# Altium footprint library CAP-100u-POL.PcbLib: 1 footprints
Each footprint in its own frame and in the unit in brackets; x right, y up, seen from the top. Pads: shape width x height; smd on the part's side, far side on the other; paste and mask are expansions set on the pad; w line width, h text height; cw(c..) or ccw(c..) is an arc to the next point about the centre after c.
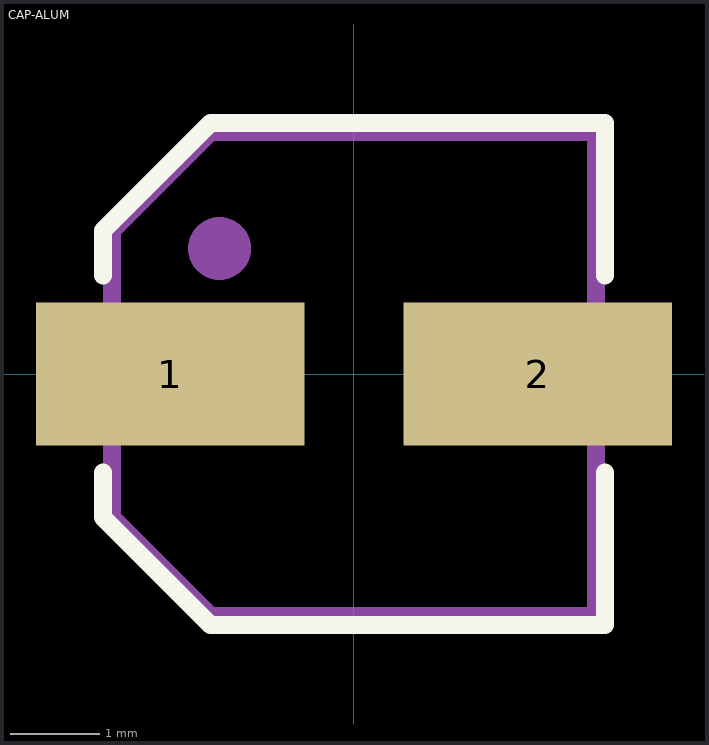
[diagram p0: the footprint, top view; thin cyan lines are the x and y axes]

## CAP-ALUM [mm]
pads (2):
  rect 3x1.6 smd: 1(-2.05,0) 2(2.05,0)
Top Overlay:
  lines w0.2: -2.8,-1.1 -2.8,-1.6 -1.6,-2.8 2.8,-2.8 2.8,-1.1 ; -2.8,1.1 -2.8,1.6 -1.6,2.8 2.8,2.8 2.8,1.1
Mechanical 29:
  circle w0.5: c-1.5,1.4 r0.1
  lines w0.2: -2.7,-1.6 -2.7,1.6 -1.6,2.7 2.7,2.7 2.7,-2.7 -1.6,-2.7 -2.7,-1.6
  text ".Designator" at -2,-0.7 h1.3
3D body "Alumin capacitor C size.step": height 6.42, standoff 0, extent -3,-2.65 3,2.65